# EAGLE library part ADAFRUIT-ULTIMATE-GPS-NO-MOUNTING-HOLES (library Adafruit Ultimate GPS Breakout)
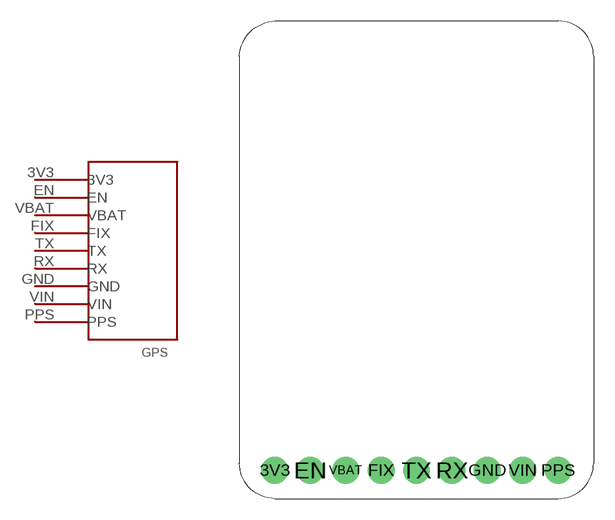
[diagram p2: symbol with the pads of GPS-NO-MOUNTING-HOLES; footprint GPS-NO-MOUNTING-HOLES]

Designator prefix -

## ADAFRUIT-ULTIMATE-GPS-NO-MOUNTING-HOLES  [GPS-NO-MOUNTING-HOLES]
3V3  3V3
EN  EN
FIX  FIX
GND  GND
PPS  PPS
RX  RX
TX  TX
VBAT  VBAT
VIN  VIN

## Footprint GPS-NO-MOUNTING-HOLES (pad centres in mm)
drill 1 pad 1.93: 3V3 2.54,2.032; EN 5.08,2.032; FIX 10.16,2.032; GND 17.78,2.032; PPS 22.86,2.032; RX 15.24,2.032; TX 12.7,2.032; VBAT 7.62,2.032; VIN 20.32,2.032